# EAGLE library part LMR61428 (library IC_Power-Management)
Step-Up Voltage Regulator, 14Vout, 2.85A Datasheet <https://www.ti.com/lit/ds/symlink/lmr61428.pdf?ts=1593530080867&ref_url=https%253A%252F%252Fwww.google.com%252F>
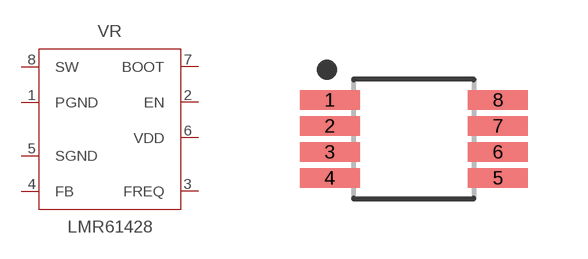
[diagram p5: symbol with the pads of SOP65P490X110-8N; footprint SOP65P490X110-8N]

Designator prefix VR

## LMR61428XMM_SOP8 (CATEGORY: IC_Power-Management; DESCRIPTION: IC REG BOOST ADJ 2.85A 8VSSOP; INPUT_VOLTAGE: 1.2V to 14V; MANUFACTURER: TI; MPN: LMR61428XMM/NOPB; OPERATING_TEMP: -40°C ~ 85°C; OUTPUT_VOLTAGE: 1.24V to 14V; PART_STATUS: Active; ROHS_COMPLIANT: Yes; SUB-CATEGORY: Voltage Regulator; TOPOLOGY: BOOST; TYPE: DC-DC Switching; VALUE: LMR61428), LMR61428XMMX_SOP8 (CATEGORY: IC_Power-Management; DESCRIPTION: IC REG BOOST ADJ 2.85A 8VSSOP; INPUT_VOLTAGE: 1.2V to 14V; MANUFACTURER: TI; MPN: LMR61428XMMX/NOPB; OPERATING_TEMP: -40°C ~ 85°C; OUTPUT_VOLTAGE: 1.24V to 14V; PART_STATUS: Active; ROHS_COMPLIANT: Yes; SUB-CATEGORY: Voltage Regulator; TOPOLOGY: BOOST; TYPE: DC-DC Switching; VALUE: LMR61428)  [SOP65P490X110-8N]
1  PGND  pwr
2  EN  in
3  FREQ
4  FB  out
5  SGND  pwr
6  VDD  pwr
7  BOOT
8  SW

## Footprint SOP65P490X110-8N (pad centres in mm)
8-SOP, 0.65 mm pitch, 4.90 mm span, 3.00 X 3.00 X 1.10 mm body 8-pin SOP package with 0.65 mm pitch, 4.90 mm span with body size 3.00 X 3.00 X 1.10 mm
smd 1.503 x 0.492: 1 -2.104,0.975; 2 -2.104,0.325; 3 -2.104,-0.325; 4 -2.104,-0.975; 5 2.104,-0.975; 6 2.104,-0.325; 7 2.104,0.325; 8 2.104,0.975